# Altium footprint library Pulsador KS01-B.PcbLib: 1 footprints
Each footprint in its own frame and in the unit in brackets; x right, y up, seen from the top. Pads: shape width x height; smd on the part's side, far side on the other; paste and mask are expansions set on the pad; w line width, h text height; cw(c..) or ccw(c..) is an arc to the next point about the centre after c.
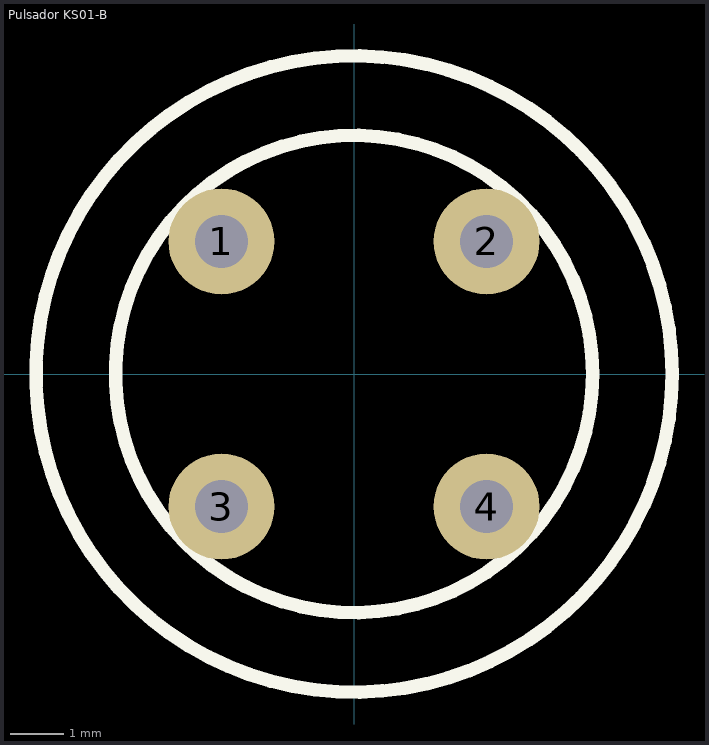
[diagram p0: the footprint, top view; thin cyan lines are the x and y axes]

## Pulsador KS01-B [mm] "Pulsador Negro grande"
pads (4):
  round 2 hole 1: 1(-2.5,2.5) 2(2.5,2.5) 3(-2.5,-2.5) 4(2.5,-2.5)
Top Overlay:
  circle w0.254: c0,0 r4.5
  circle w0.254: c0,0 r6
3D body: height 12.8, standoff 5.8, extent -4.555,-4.445 4.445,4.555
3D body: height 5.8, standoff 0, extent -6.031,-6.031 5.969,5.969